# Altium schematic symbol library DHT11.SchLib: 1 symbol
Pins are listed as number, name and electrical type; pins without a type are passive.

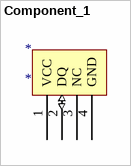
[diagram p0: symbol Component_1]

## Component_1
designator *
pins: 1 VCC (power), 2 DQ (io), 3 NC, 4 GND (power)